# Altium schematic symbol library CRGCQ0603J2K2.SchLib: 1 symbol
Pins are listed as number, name and electrical type; pins without a type are passive.

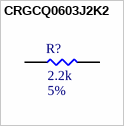
[diagram p0: symbol CRGCQ0603J2K2]

## CRGCQ0603J2K2
designator R?  Resistance: 2.2k  Tolerance: 5%  (hidden comment: CRGCQ0603J2K2)
CRGCQ 0603 2K2 5%; MFR: TE Connectivity Passive Product; Power Rating: 1/10W; PN: CRGCQ0603J2K2; Footprint: RES0603; Package: 0603; ComponentLink1Description: Datasheet; ComponentLink1URL: https://www.te.com/commerce/DocumentDelivery/DDEController?Action=srchrtrv&DocNm=1773204-3&DocType=DS&DocLang=English; Supplier 1: Digi-Key; Supplier Part Number 1: A130093CT-ND
footprint RES0603 (Generic 0603)
pins: 1, 2